# Altium schematic symbol library Schottky.SchLib: 15 symbols
Pins are listed as number, name and electrical type; pins without a type are passive.

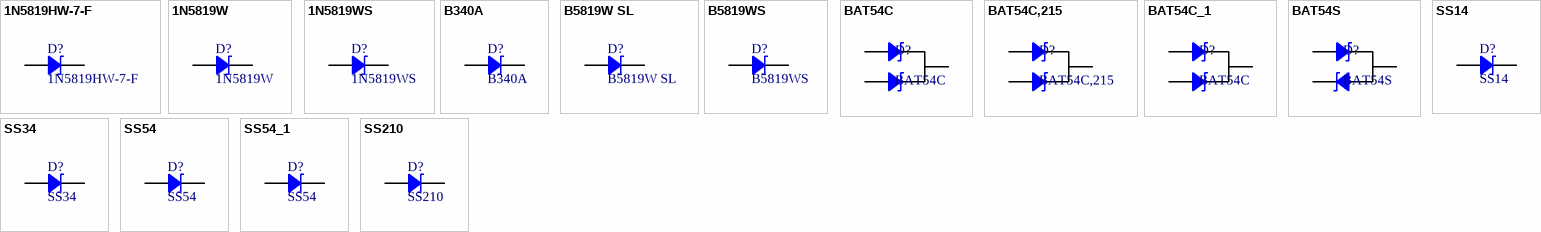
[diagram p0: symbols 1N5819HW-7-F to SS210]

## 1N5819HW-7-F
designator D?
DIODES(美台) 电压:40V 电流:5A; 封装: SOD-123; 类别: 肖特基二极管; 正向压降: 450mV@1A; 直流反向耐压: 40V; 整流电流: 1A; 反向电流: 1mA@40V; 制造商: DIODES(美台); 子类别: -
footprint DIODES-SOD123 (DIODES(美台) SOD123 推荐封装)
pins: 1, 2

## 1N5819W
designator D?
JSMSEMI(杰盛微) 电压:40V 电流:1A; 制造商: Hottech(合科泰); 封装: SOD-123; 类别: 肖特基二极管; 正向压降: 600mV@200mA; 直流反向耐压: 40V; 整流电流: 350mA; 反向电流: 5uA@30V; 子类别: -
footprint JSMSEMI-SOD123 (JSMSEMI(杰盛微) SOD123 推荐封装)
pins: 1, 2

## 1N5819WS
designator D?
Hottech(合科泰) 电压:40V 电流:1A; 封装: SOD-323; 类别: 肖特基二极管; 正向压降: 600mV@1A; 直流反向耐压: 40V; 整流电流: 1A; 制造商: Hottech(合科泰); 子类别: -; 反向电流: -
footprint Hottech-SOD323 (Hottech(合科泰) SOD-323推荐焊盘)
pins: 1, 2

## B340A
designator D?
MDD(辰达半导体) 电压:40V 电流:5A; 封装: DO-214AC; 类别: 肖特基二极管; 正向压降: 550mV@3A; 直流反向耐压: 40V; 整流电流: 3A; 反向电流: 500uA@40V; 制造商: MDD(辰达半导体); 子类别: -
footprint MDD-DO-214AC (MDD(辰达半导体) DO-214AC 推荐焊盘)
pins: 1, 2

## B5819W SL
designator D?
CJ(江苏长电/长晶) 电压:40V 电流:1A; 制造商: MDD(辰达半导体); 封装: DO-214AC; 类别: 肖特基二极管; 正向压降: 600mV@1A; 直流反向耐压: 40V; 整流电流: 1A; 子类别: -; 反向电流: -
footprint CJ-SOD123 (CJ(江苏长电/长晶) SOD123 推荐封装)
pins: 1, 2

## B5819WS
designator D?
宏嘉诚 电压:40V 电流:1A; 封装: SOD-323; 类别: 肖特基二极管; 正向压降: 600mV@1.0A; 直流反向耐压: 40V; 整流电流: 1A; 反向电流: 1mA@40V; 制造商: 宏嘉诚; 子类别: -
footprint HJC-SOD323 (宏嘉诚 SOD-323推荐焊盘)
pins: 1, 2

## BAT54C
designator D?
宏嘉诚 电压:30V 电流:200mA; 封装: SOT-23; 类别: 肖特基二极管; 正向压降: 400mV@10mA; 直流反向耐压: 30V; 整流电流: 200mA; 反向电流: 2uA@30V; 制造商: 宏嘉诚; 子类别: -
footprint HJC-SOT23 (宏嘉诚 SOT23 回流焊)
pins: 1, 2, 3

## BAT54C,215
designator D?
Nexperia(安世) 电压:30V 电流:200mA; 封装: SOT-23; 类别: 肖特基二极管; 正向压降: 800mV@100mA; 直流反向耐压: 30V; 整流电流: 200mA; 反向电流: 2uA@25V; 制造商: Nexperia(安世); 子类别: -
footprint Nexperia-SOT23-Reflow (Nexperia(安世) SOT23 回流焊)
footprint Nexperia-SOT23-WAVE (Nexperia(安世) SOT23 波峰焊)
pins: 1, 2, 3

## BAT54C_1
designator D?, comment BAT54C
CJ(江苏长电/长晶) 电压:30V 电流:200mA; 封装: SOT-23; 类别: 肖特基二极管; 正向压降: 1V@100mA; 直流反向耐压: 30V; 整流电流: 200mA; 制造商: CJ(江苏长电/长晶); 子类别: -; 反向电流: -
footprint CJ-SOT23 (CJ(江苏长电/长晶) SOT23 回流焊)
pins: 1, 2, 3

## BAT54S
designator D?
宏嘉诚 电压:30V 电流:200mA; 封装: SOT-23; 类别: 肖特基二极管; 正向压降: 400mV@10mA; 直流反向耐压: 30V; 整流电流: 200mA; 反向电流: 2uA@30V; 制造商: 宏嘉诚; 子类别: -
footprint HJC-SOT23 (宏嘉诚 SOT23 回流焊)
pins: 1, 2, 3

## SS14
designator D?
MDD(辰达半导体) 电压:40V 电流:1A; 封装: DO-214AC; 类别: 肖特基二极管; 正向压降: 550mV@1A; 直流反向耐压: 40V; 整流电流: 1A; 反向电流: 300uA@40V; 制造商: MDD(辰达半导体); 子类别: -
footprint MDD-DO-214AC (MDD(辰达半导体) DO-214AC 推荐焊盘)
pins: 1, 2

## SS34
designator D?
MDD(辰达半导体) 电压:40V 电流:3A; 封装: DO-214AC; 类别: 肖特基二极管; 正向压降: 550mV@3A; 直流反向耐压: 40V; 整流电流: 3A; 反向电流: 500uA@40V; 制造商: MDD(辰达半导体); 子类别: -
footprint MDD-DO-214AC (MDD(辰达半导体) DO-214AC 推荐焊盘)
pins: 1, 2

## SS54
designator D?
MDD(辰达半导体) 电压:40V 电流:5A; 封装: DO-214AC; 类别: 肖特基二极管; 正向压降: 550mV@5A; 直流反向耐压: 40V; 整流电流: 5A; 反向电流: 1mA@40V; 制造商: MDD(辰达半导体); 子类别: -
footprint MDD-DO-214AC (MDD(辰达半导体) DO-214AC 推荐焊盘)
pins: 1, 2

## SS54_1
designator D?, comment SS54
宏嘉诚 电压:40V 电流:5A; 封装: DO-214AC; 类别: 肖特基二极管; 正向压降: 550mV@5.0A; 直流反向耐压: 40V; 整流电流: 5A; 反向电流: 50uA@40V; 制造商: 宏嘉诚; 子类别: -
footprint HJC-DO-214AC (宏嘉诚 DO-214AC 推荐焊盘)
pins: 1, 2

## SS210
designator D?
MDD(辰达半导体) 电压:100V 电流:2A; 封装: DO-214AC; 类别: 肖特基二极管; 正向压降: 850mV@2A; 直流反向耐压: 100V; 整流电流: 2A; 反向电流: 500uA@100V; 制造商: MDD(辰达半导体); 子类别: -
footprint MDD-DO-214AC (MDD(辰达半导体) DO-214AC 推荐焊盘)
pins: 1, 2